# EAGLE library part TPS2115APWR (library TPS115A)
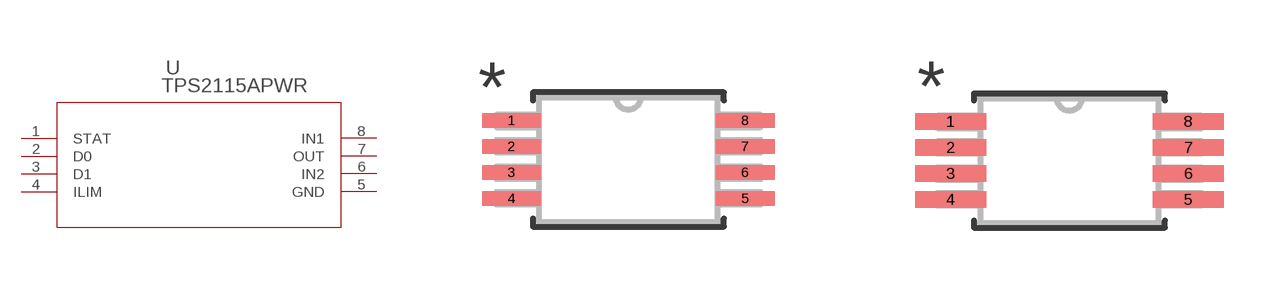
[diagram p0: symbol with the pads of PW8; footprints PW8, PW8-M]

Designator prefix U

## TPS2115APWR (MANUFACTURER_PART_NUMBER: TPS2115APWR; VENDOR: Texas Instruments)  [PW8]
1  STAT  out
2  D0  in
3  D1  in
4  ILIM  in
5  GND  pwr
6  IN2  in
7  OUT  out
8  IN1  in

## TPS2115APWRPW8-M (MANUFACTURER_PART_NUMBER: TPS2115APWR; VENDOR: Texas Instruments)  [PW8-M]
Pads as for PW8

## TPS2115APWRPW8-L (MANUFACTURER_PART_NUMBER: TPS2115APWR; VENDOR: Texas Instruments)  [PW8-L]
Pads as for PW8

## Footprint PW8 (pad centres in mm)
smd 1.473 x 0.356: 1 -2.921,0.975; 2 -2.921,0.325; 3 -2.921,-0.325; 4 -2.921,-0.975; 5 2.921,-0.975; 6 2.921,-0.325; 7 2.921,0.325; 8 2.921,0.975

## Footprint PW8-M (pad centres in mm)
smd 1.778 x 0.406: 1 -2.972,0.975; 2 -2.972,0.325; 3 -2.972,-0.325; 4 -2.972,-0.975; 5 2.972,-0.975; 6 2.972,-0.325; 7 2.972,0.325; 8 2.972,0.975

## Footprint PW8-L (pad centres in mm)
smd 1.168 x 0.305: 1 -2.87,0.975; 2 -2.87,0.325; 3 -2.87,-0.325; 4 -2.87,-0.975; 5 2.87,-0.975; 6 2.87,-0.325; 7 2.87,0.325; 8 2.87,0.975